# EAGLE library part ADXRS290 (library LinnesLab-Sensors)
EAGLE device for the ADXRS290 gyroscope. GND pins are tied together and connected to ground. Footprint is taken from a top view.
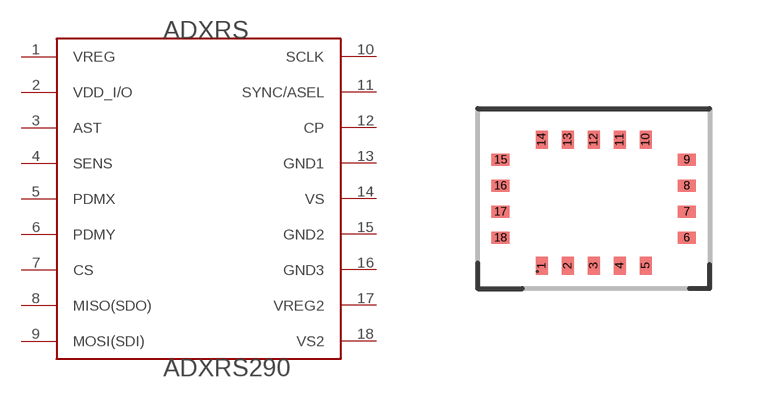
[diagram p22: symbol with the pads of ADXRS290; footprint ADXRS290]

Designator prefix ADXRS

## ADXRS290SMD  [ADXRS290]
1  VREG
2  VDD_I/O
3  AST
4  SENS
5  PDMX
6  PDMY
7  CS
8  MISO(SDO)
9  MOSI(SDI)
10  SCLK
11  SYNC/ASEL
12  CP
13  GND1
14  VS
15  GND2
16  GND3
17  VREG2
18  VS2

## Footprint ADXRS290 (pad centres in mm)
smd 0.3 x 0.45: 1 -1.3,-1.575; 2 -0.65,-1.575; 3 0,-1.575; 4 0.65,-1.575; 5 1.3,-1.575; 10 1.3,1.575; 11 0.65,1.575; 12 0,1.575; 13 -0.65,1.575; 14 -1.3,1.575
smd 0.45 x 0.3: 6 2.33,-0.875; 7 2.33,-0.225; 8 2.33,0.425; 9 2.33,1.075; 15 -2.33,1.075; 16 -2.33,0.425; 17 -2.33,-0.225; 18 -2.33,-0.875